# EAGLE library part 171013802 (library WPME-VDLM)
MagI³C-VDLM Variable Step Down LGA Module Characteristics Low conducted and radiated EMI (compliant to EN55022 class B / CISPR-22) LGA-12EP For direct connection to 24 V industrial voltage network Low profile LGA-package Ideal for space constrained applications 2 solder cycles supported LGA-16EP Low profile LGA-package Stand alone solution (CIN and COUT integrated, 2 external components to set VOUT) Ideal for space constrained applications 2 solder cycles supported LGA-26 For direct connection to 24 V industrial voltage network Sync function for custom switching frequencies Low profile LGA-package Ideal for space constrained applications 2 solder cycles supported Applications Point-of-Load DC-DC applications from 18V, 15V, 12V, 9V, 5V industrial rails Test and measurement equipment Medical equipment Interface supply Supply of microcontrollers, microprocessors, DSPs, FPGAs Industrial electronics Telecommunications <https://www.we-online.com/components/media/o683498v209%20Family_Magic-VDLM_171013801_171011801.jpg> Details see: www.we-online.com/en/components/products/MAGIC-VDLM <www.we-online.com/catalog/MAGIC-VDLM/?utm_source=eagle_model&utm_medium=description_link&utm_campaign=eisos_eagle> Updated by Ella Wu 2024-11-12 2024(C) Würth Elektronik
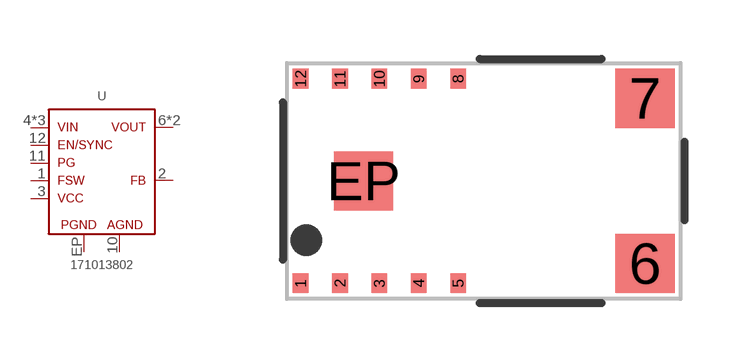
[diagram p4: symbol with the pads of WPME-VDLM_LGA-12EP; footprint WPME-VDLM_LGA-12EP]

Designator prefix U

## 171013802 (DATASHEET-URL: https://www.we-online.com/redexpert/spec/171013802?ae; HEIGHT: 3.1mm; I-OUTPUT: 1A; LENGTH: 10mm; MOUNT: SMT; PART-NUMBER: 171013802; SIZE: LGA-12EP; V-INPUT: 3.5 - 38Vin; V-OUTPUT: 0.85 - 13Vout; VALUE: 3.5 - 38Vin, 0.85 - 13Vout, 1A; WIDTH: 6mm)  [WPME-VDLM_LGA-12EP]
1  FSW  pas
2  FB  pas
3  VCC  pas
4  VIN  pas
5  VIN  pas
6  VOUT  pas
7  VOUT  pas
9  VIN  pas
10  AGND  pas
11  PG  pas
12  EN/SYNC  pas
EP  PGND  pas

## Footprint WPME-VDLM_LGA-12EP (pad centres in mm)
MagI³C-VDLM Variable Step Down LGA Module Size : LGA-12EP, SMT LxWxH=10mm x 6mm x 3.1mm
smd 0.4 x 0.5: 1 -4.65,-2.6; 2 -3.65,-2.6; 3 -2.65,-2.6; 4 -1.65,-2.6; 5 -0.65,-2.6; 8 -0.65,2.6; 9 -1.65,2.6; 10 -2.65,2.6; 11 -3.65,2.6; 12 -4.65,2.6
smd 1.5 x 1.5: 6 4.1,-2.1; 7 4.1,2.1; EP -3.05,0